# EAGLE library part ADM3260-SSOP (library ADM3260)
ADM3260 - Dual I2C Isolator Datasheet <http://www.analog.com/media/en/technical-documentation/data-sheets/ADM3260.pdf> Designed by AKstudios github.com/akstudios
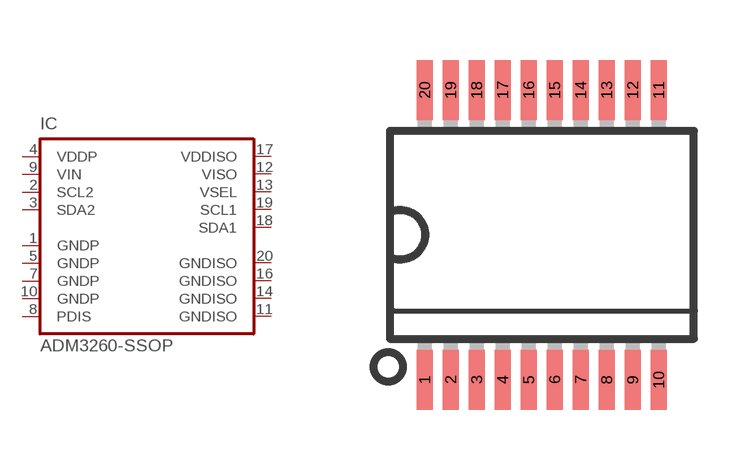
[diagram p0: symbol with the pads of SSOP20; footprint SSOP20]

Designator prefix IC

## ADM3260-SSOP  [SSOP20]
1  GNDP  pwr
2  SCL2
3  SDA2  in
4  VDDP
5  GNDP
7  GNDP
8  PDIS
9  VIN
10  GNDP
11  GNDISO
12  VISO
13  VSEL
14  GNDISO
16  GNDISO
17  VDDISO
18  SDA1  pwr
19  SCL1
20  GNDISO

## Footprint SSOP20 (pad centres in mm)
Shrink Small Outline Package package type SS
smd 0.4 x 1.5: 1 -2.925,-3.625; 2 -2.275,-3.625; 3 -1.625,-3.625; 4 -0.975,-3.625; 5 -0.325,-3.625; 6 0.325,-3.625; 7 0.975,-3.625; 8 1.625,-3.625; 9 2.275,-3.625; 10 2.925,-3.625; 11 2.925,3.625; 12 2.275,3.625; 13 1.625,3.625; 14 0.975,3.625; 15 0.325,3.625; 16 -0.325,3.625; 17 -0.975,3.625; 18 -1.625,3.625; 19 -2.275,3.625; 20 -2.925,3.625